# Altium schematic symbol library 3266W-1-503LF.SchLib: 1 symbol
Pins are listed as number, name and electrical type; pins without a type are passive.

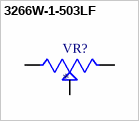
[diagram p0: symbol 3266W-1-503LF]

## 3266W-1-503LF
designator VR?
50 kOhms 0.25W, 1/4W PC Pins Through Hole Trimmer Potentiometer Cermet 12 Turn Top Adjustment; MP: 3266W-1-503LF; MF: Bourns; SnapEDA_Link: https://www.snapeda.com/parts/3266W-1-503LF/Bourns/view-part/289740/?ref=snap; Availability: Good; Price: None; Check_prices: https://www.snapeda.com/parts/3266W-1-503LF/Bourns/view-part/289740/?ref=eda; Value: *; Purchase-URL: https://pricing.snapeda.com/search/part/3266W-1-503LF/?ref=eda; Package: TO-218 Bourns
footprint TRIM_3266W-1-503LF
pins: 1 CCW, 2 WIPER, 3 CW